# EAGLE library part LM386 (library IC)
Low Voltage Audio Power Amplifier http://www.ti.com/lit/ds/symlink/lm386.pdf
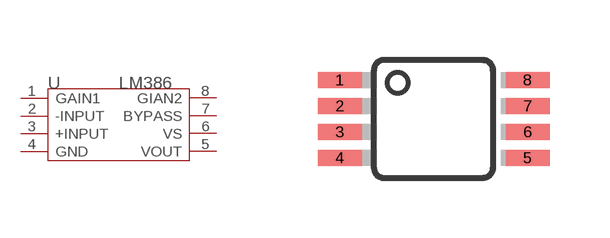
[diagram p28: symbol with the pads of MSOP8; footprint MSOP8]

Designator prefix U

## LM386-MSOP8  [MSOP8]
1  GAIN1
2  -INPUT  in
3  +INPUT  in
4  GND  sup
5  VOUT  out
6  VS  sup
7  BYPASS
8  GIAN2

## Footprint MSOP8 (pad centres in mm)
8M, 8-Lead, 0.118" Wide, Miniature Small Outline Package MSOP 8M-Package doc1097.pdf
smd 1.1 x 0.4: 1 -2.477,0.975; 2 -2.477,0.325; 3 -2.477,-0.325; 4 -2.477,-0.975; 5 2.223,-0.975; 6 2.223,-0.325; 7 2.223,0.325; 8 2.223,0.975